# Altium footprint library DO-214-AC.PcbLib: 1 footprints
Each footprint in its own frame and in the unit in brackets; x right, y up, seen from the top. Pads: shape width x height; smd on the part's side, far side on the other; paste and mask are expansions set on the pad; w line width, h text height; cw(c..) or ccw(c..) is an arc to the next point about the centre after c.
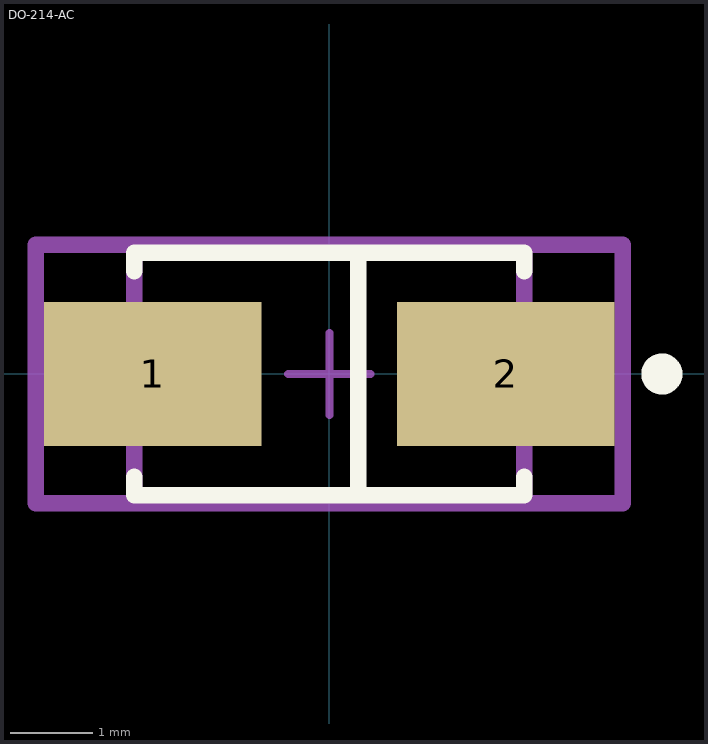
[diagram p0: the footprint, top view; thin cyan lines are the x and y axes]

## DO-214-AC [mm]
pads (2):
  rect 2.65x1.75 smd paste+0 mask+0: 1(-2.15,0) 2(2.15,0)
Top Overlay:
  circle w0.25: c4.05,0 r0.125
  lines w0.2: -2.375,-1.25 -2.375,-1.475 2.375,-1.475 2.375,-1.25 ; -2.375,1.25 -2.375,1.475 2.375,1.475 2.375,1.25 ; 0.35,-1.4 0.35,1.4
Top Assembly:
  lines w0.2: -3.575,-1.575 3.575,-1.575 3.575,1.575 -3.575,1.575 -3.575,-1.575
  text ".Designator" at 0,-0.001 h1
Top 3D Body:
  lines w0.2: -2.375,-1.475 2.375,-1.475 2.375,1.475 -2.375,1.475 -2.375,-1.475
Top Courtyard:
  lines w0.2: -3.575,-1.575 3.575,-1.575 3.575,1.575 -3.575,1.575 -3.575,-1.575
Top Component Center:
  lines w0.1: -0.5,0 0.5,0 ; 0,-0.5 0,0.5
3D body "Diode_ON_Semiconductor_SS14_eec.STEP": height 0.25, standoff 0, extent -3.575,-1.575 3.575,1.575